# EAGLE library part TLV5625 (library mjw)
Dual 8-bit DAC
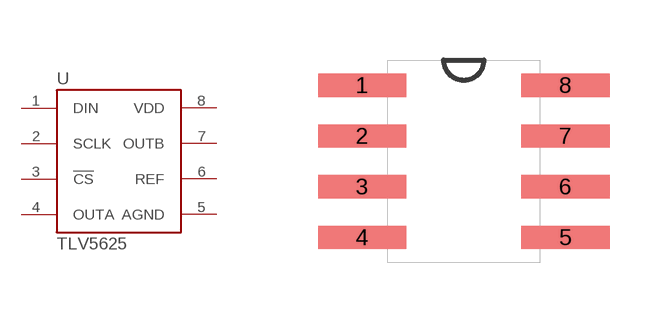
[diagram p0: symbol with the pads of SO8; footprint SO8]

Designator prefix -

## TLV5625  [SO8]
1  DIN  in
2  SCLK  in
3  !CS!  in
4  OUTA  out
5  AGND  pwr
6  REF  in
7  OUTB  out
8  VDD  pwr

## Footprint SO8 (pad centres in mm)
smd 2.21 x 0.584: 1 -2.54,1.905; 2 -2.54,0.635; 3 -2.54,-0.635; 4 -2.54,-1.905; 5 2.54,-1.905; 6 2.54,-0.635; 7 2.54,0.635; 8 2.54,1.905